# Altium footprint library MZBT_PcpLibrary.PcbLib: 144 footprints (part 3 of 9)
Each footprint in its own frame and in the unit in brackets; x right, y up, seen from the top. Pads: shape width x height; smd on the part's side, far side on the other; paste and mask are expansions set on the pad; w line width, h text height; cw(c..) or ccw(c..) is an arc to the next point about the centre after c.
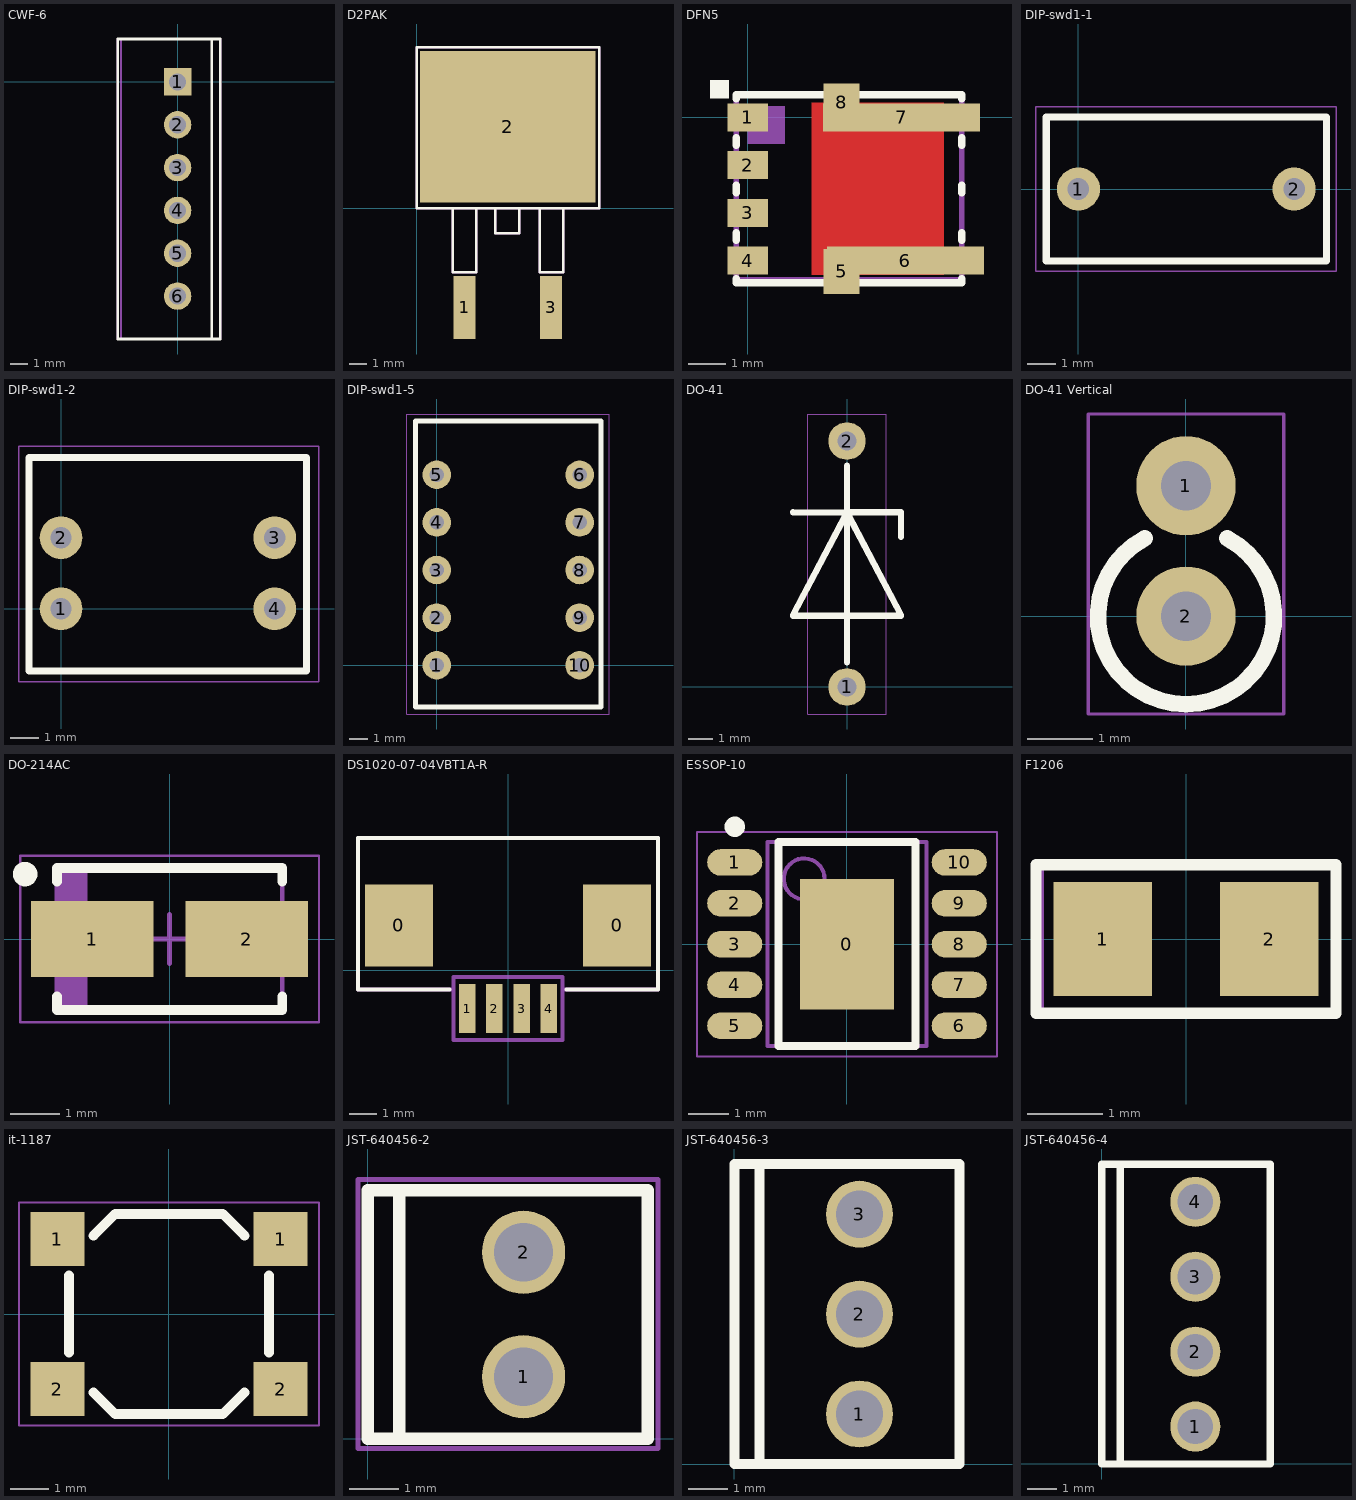
[diagram p2: the footprints below, top view; thin cyan lines are the x and y axes]

## CWF-6 [mm]
height 6
pads (6):
  rect 1.6x1.6 hole 1: 1(0,0)
  round 1.6 hole 1: 2(0,-2.5) 3(0,-5) 4(0,-7.5) 5(0,-10) 6(0,-12.5)
Top Overlay:
  lines w0.15: 2,-15 2,2.5 ; -3.5,-15 -3.5,2.5 2.5,2.5 2.5,-15 -3.5,-15
Top Court:
  lines w0.1: 2,-15 2,2.5 ; -3.3,-15 2.5,-15 2.5,2.5 -3.3,2.5 -3.3,-15
Top Comment:
  text ".Comment" at -2.789,-8.452 h1.52
Top Designator (Mech9):
  text ".Designator" at -3.217,-7.228 h1.52
Top Courtyard:
  lines w0.1: -0.4,0 0.4,0 ; 0,-0.4 0,0.4
  lines w0.102: -3.5,-15 2.5,-15 2.5,2.5 -3.5,2.5 -3.5,-15
3D body "User Library-CWF-6.STEP": height 7, standoff -3.5, extent -3.525,-15 2.225,2.5

## D2PAK [mm]
pads (3):
  rect 1.3x3.7 smd: 1(2.8,-5.81) 3(7.88,-5.81)
  rect 10.3x8.9 smd: 2(5.34,4.79)
Top Overlay:
  lines w0.15: 2.1,0 2.1,-3.755 3.5,-3.755 3.5,0 ; 4.6,0 4.6,-1.455 6,-1.455 6,0 ; 7.2,0 7.2,-3.755 8.6,-3.755 8.6,0 ; 0,0 10.7,0 10.7,0.94 10.7,9.445 0,9.445 0,9.245 0,0
Top Comment:
  text ".Comment" at 3.151,3.838 h1.52
Top Designator (Mech9):
  text ".Designator" at 2.723,5.062 h1.52
Top Component Outline:
  lines w0.15: 2.1,0 2.1,-3.755 3.5,-3.755 3.5,0 ; 4.6,0 4.6,-1.455 6,-1.455 6,0 ; 7.2,0 7.2,-3.755 8.6,-3.755 8.6,0 ; 0,0 10.7,0 10.7,0.94 10.7,9.445 0,9.445 0,9.245 0,0
3D body "D2PAK.step": height 4.98, standoff -0.03, extent 0.26,-6.019 10.42,9.245

## DFN5 [mm]
pads (8):
  rect 1.08x0.75 smd: 1(0,0) 2(0,-1.27) 3(0,-2.54) 4(0,-3.81)
  rect 0.95x1.2 smd: 5(2.5,-4.1)
  rect 4.18x0.75 smd: 6(4.2,-3.81) 7(4.1,0)
  rect 0.95x1 smd: 8(2.5,0.4)
Top Layer:
  rectangle: 1.7,-4.2 5.23,0.4
Top Overlay:
  rectangle: -1,0.5 -0.5,1
  lines w0.2: -0.3,-4.3 -0.3,-4.4 5.7,-4.4 5.7,-4.3 ; -0.3,-3.275 -0.3,-3.075 ; -0.3,-2.005 -0.3,-1.805 ; -0.3,-0.735 -0.3,-0.535 ; -0.3,0.5 -0.3,0.6 5.7,0.6 5.7,0.5 ; 5.7,-3.275 5.7,-3.075 ; 5.7,-2.005 5.7,-1.805 ; 5.7,-0.735 5.7,-0.535
Top Designator (Mech9):
  text ".Comment" at 5.05,-3.45 h0.8
  text ".Designator" at 5.15,-2.85 h0.8
Top Component Outline:
  rectangle: 0,-0.7 1,0.3
  lines w0.15: -0.3,-4.325 5.7,-4.325 5.7,0.6 -0.3,0.6 -0.3,-4.325
Top 3D Body (Mech13):
  region: -0.1,-4.5
  region: -0.1,-4.5
3D body "User Library-DFN5x6_SO8FL.STEP": height 1.13, standoff 0, extent -0.075,-4.5 6.075,0.65

## DIP-swd1-1 [mil] "SWD1-2"
pads (2):
  round 60 hole 30: 1(0,0) 2(300,0)
Top Overlay:
  lines w10: -44.88,-100 -44.88,100 344.88,100 344.88,-100 -44.88,-100
Top Comment:
  text ".Comment" at 63.43,-37.46 h60
Top Designator (Mech9):
  text ".Designator" at 46.56,10.69 h60
Top Courtyard:
  lines w1.97: -59.06,-114.17 -59.06,114.17 358.27,114.17 358.27,-114.17 -59.06,-114.17

## DIP-swd1-2 [mil] "SWD1-2"
pads (4):
  round 60 hole 30: 1(0,0) 2(0,100) 3(300,100) 4(300,0)
Top Overlay:
  lines w10: -44.88,-87.4 344.88,-87.4 344.88,212.6 -44.88,212.6 -44.88,-87.4
Top Comment:
  text ".Comment" at 59.49,13.72 h60
Top Designator (Mech9):
  text ".Designator" at 42.62,61.87 h60
Top Courtyard:
  lines w1.97: -59.06,-102.36 362.21,-102.36 362.21,228.35 -59.06,228.35 -59.06,-102.36

## DIP-swd1-5 [mil] "SWD1-5"
pads (10):
  round 60 hole 30: 1(0,0) 2(0,100) 3(0,200) 4(0,300) 5(0,400) 6(300,400) 7(300,300) 8(300,200) 9(300,100) 10(300,0)
Top Overlay:
  lines w10: -44.88,-87.4 -44.88,512.6 344.88,512.6 344.88,-87.4 -44.88,-87.4
Top Comment:
  text ".Comment" at 50.26,159.69 h60
Top Designator (Mech9):
  text ".Designator" at 50.26,205.37 h60
Top Courtyard:
  lines w1.97: -62.99,-102.36 -62.99,527.56 362.21,527.56 362.21,-102.36 -62.99,-102.36

## DO-41 [mil] "zener diode"
pads (2):
  round 60 hole 30: 1(0,0) 2(0,393.7)
Top Overlay:
  lines w10: -86.61,279.53 0,279.51 -86.61,114.17 0,114.17 86.61,114.17 0,279.53 86.61,279.53 86.61,240.16 ; 0,39.37 0,354.33
Top Comment:
  text ".Comment" at -33.9,170.3 h23.62
Top Designator (Mech9):
  text ".Designator" at -54.15,190.66 h31.5
Top Courtyard:
  lines w1.97: -62.99,-43.31 -62.99,437.01 62.99,437.01 62.99,-43.31 -62.99,-43.31
3D body "User Library-DO-41 10mm.step": height 171.73, standoff -39.37, extent -53.64,-16.93 53.64,410.63

## DO-41 Vertical [mil]
pads (2):
  round 60 hole 30: 1(0,78.74) 2(0,0)
Top Overlay:
  lines w10: -24.95,46.93 ccw(c0,0) 24.95,46.93
Top Comment:
  text ".Comment" at -33.9,16.76 h23.62
Top Designator (Mech9):
  text ".Designator" at -54.15,37.11 h31.5
Top Courtyard:
  lines w1.97: -59.06,-59.06 59.06,-59.06 59.06,122.05 -59.06,122.05 -59.06,-59.06
3D body "User Library-DO_41_Vertical_H6P7.STEP": height 280.71, standoff -59.06, extent -53.15,-53.15 53.15,95.67

## DO-214AC [mm] "Molded Diode, 2-Leads, Body 4,30x2,70mm, IPC Medium Density"
height 2.44
pads (2):
  rect 2.5x1.55 smd: 1(-1.575,0) 2(1.575,0)
Top Overlay:
  circle w0.25: c-2.95,1.325 r0.125
  lines w0.2: -2.3,-1.175 -2.3,-1.45 2.3,-1.45 2.3,-1.175 ; -2.3,1.175 -2.3,1.45 2.3,1.45 2.3,1.175
Top Comment:
  text ".Comment" at -2.189,-0.952 h1.52
Top Designator (Mech9):
  text ".Designator" at -2.617,0.272 h1.52
Top 3D Body (Mech13):
  rectangle: -2.3,-1.45 -1.681,1.45
  lines w0.1: -2.3,-1.45 2.3,-1.45 2.3,1.45 -2.3,1.45 -2.3,-1.45
Top Courtyard:
  lines w0.05: -3.05,-1.7 3.05,-1.7 3.05,1.7 -3.05,1.7 -3.05,-1.7
  lines w0.1: -0.5,0 0.5,0 ; 0,-0.5 0,0.5
3D body "User Library-DO-214AC SMA.step": height 2.4, standoff 0, extent -2.6,-1.3 2.6,1.3

## DS1020-07-04VBT1A-R [mm] "FPC разъем для шлейфа на плату, поверхностный монтаж 4pin, шаг 1.00мм"
pads (6):
  rect 2.5x3 smd: 0(-4,1.65) 0(4,1.65)
  rect 0.6x1.8 smd: 1(-1.5,-1.4) 2(-0.5,-1.4) 3(0.5,-1.4) 4(1.5,-1.4)
Top Overlay:
  lines w0.15: -2.15,-0.7 -5.5,-0.7 -5.5,4.85 5.5,4.85 5.5,-0.7 2.15,-0.7
Top Comment:
  text ".Comment" at -2.189,0.648 h1.52
Top Designator (Mech9):
  text ".Designator" at -2.617,1.872 h1.52
Top Courtyard:
  lines w0.15: -2,-0.7 -5.5,-0.7 ; -5.5,-0.7 -5.5,4.85 ; -5.5,-0.7 -5.5,4.85 ; -5.5,4.85 5.5,4.85 ; -5.5,4.85 5.5,4.85 ; 5.5,-0.7 5.5,4.85 ; 5.5,-0.7 5.5,4.85 ; 5.5,-0.7 2,-0.7 5.5,-0.7 ; -2,-2.55 2,-2.55 2,-0.25 -2,-0.25 -2,-2.55

## ESSOP-10 [mm] "SOP, 10-Leads, Body 5,00x3,90mm, Pitch 1,00mm, Thermal Pad 3,20x2,30mm, IPC Medium Density"
height 1.8
pads (11):
  rect 2.3x3.2 smd: 0(0,0)
  oval 1.35x0.65 smd: 1(-2.75,2) 2(-2.75,1) 3(-2.75,0) 4(-2.75,-1) 5(-2.75,-2) 6(2.75,-2) 7(2.75,-1) 8(2.75,0) 9(2.75,1) 10(2.75,2)
Top Overlay:
  circle w0.25: c-2.75,2.875 r0.125
  lines w0.2: -1.675,-2.5 1.675,-2.5 1.675,2.5 -1.675,2.5 -1.675,-2.5
Top Comment:
  text ".Comment" at 0.952,-2.189 h1.52
Top Designator (Mech9):
  text ".Designator" at -0.272,-2.617 h1.52
Top 3D Body (Mech13):
  circle w0.1: c-1.05,1.6 r0.5
  lines w0.1: -1.95,-2.5 1.95,-2.5 1.95,2.5 -1.95,2.5 -1.95,-2.5
Top Courtyard:
  lines w0.05: -3.675,-2.75 3.675,-2.75 3.675,2.75 -3.675,2.75 -3.675,-2.75
  lines w0.1: -0.5,0 0.5,0 ; 0,-0.5 0,0.5
3D body: height 1.8, standoff 1.8, extent -1.95,-2.5 1.95,2.5

## F1206 [mm] "SMD FUSE 1206"
height 0.5
pads (2):
  rect 1.3x1.5 smd: 1(-1.1,0) 2(1.1,0)
Top Overlay:
  lines w0.15: -1.98,-0.98 1.98,-0.98 1.98,0.98 -1.98,0.98 -1.98,-0.98
Top Component Outline:
  lines w0.1: -1.925,-0.98 -1.925,0.98 1.98,0.98 1.98,-0.98 -1.925,-0.98
3D body "Features-6.step": height 0.5, standoff -0.05, extent -1.525,-0.775 1.575,0.825

## it-1187 [mm] "switch"
pads (4):
  rect 1.4x1.4 smd: 1(-2.9,1.95) 1(2.9,1.95) 2(-2.9,-1.95) 2(2.9,-1.95)
Top Overlay:
  lines w0.254: -2.6,-1 -2.6,1 ; -1.963,-2.037 -1.4,-2.6 1.4,-2.6 1.963,-2.037 ; -1.963,2.037 -1.4,2.6 1.4,2.6 1.963,2.037 ; 2.6,-1 2.6,1
Top Comment:
  text ".Comment" at -2.189,-0.952 h1.52
Top Designator (Mech9):
  text ".Designator" at -2.617,0.272 h1.52
Top Courtyard:
  lines w0.05: -3.9,-2.9 3.9,-2.9 3.9,2.9 -3.9,2.9 -3.9,-2.9
3D body "User Library-IT-1187.step": height 1.5, standoff 0, extent -3.2,-2.6 3.2,2.6

## JST-640456-2 [mm]
pads (2):
  round 1.7 hole 1.2: 1(3.18,1.27) 2(3.18,3.81)
Top Overlay:
  lines w0.254: 0.64,0 0.64,5.08 ; 1.6,0 1.7,0 ; 0,0 0,5.08 5.72,5.08 5.72,0 0,0
Top Comment:
  text ".Comment" at 0.711,1.548 h1.52
Top Designator (Mech9):
  text ".Designator" at 0.283,2.772 h1.52
Top Courtyard:
  lines w0.102: -0.2,-0.2 5.925,-0.2 5.925,5.3 -0.2,5.3 -0.2,-0.2
3D body "User Library-640456-2.step": height 10.03, standoff -3.56, extent -0.061,0 5.781,5.08

## JST-640456-3 [mm]
pads (3):
  round 1.7 hole 1.2: 1(3.18,1.27) 2(3.18,3.81) 3(3.18,6.35)
Top Overlay:
  lines w0.254: 0.64,0 0.64,7.62 ; 1.6,0 1.7,0 ; 0,0 0,7.62 5.72,7.62 5.72,0 0,0
Top Comment:
  text ".Comment" at 0.711,2.848 h1.52
Top Designator (Mech9):
  text ".Designator" at 0.283,4.072 h1.52
Top Courtyard:
  lines w0.102: 0,0 5.725,0 5.725,7.625 0,7.625 0,0
3D body "User Library-640456-3.step": height 10.03, standoff -3.56, extent 0.005,0 5.847,7.62

## JST-640456-4 [mm]
pads (4):
  round 1.7 hole 1.2: 1(3.18,1.27) 2(3.18,3.81) 3(3.18,6.35) 4(3.18,8.89)
Top Overlay:
  lines w0.254: 0.64,0 0.64,10.16 ; 1.6,0 1.7,0 ; 0,0 0,10.16 5.72,10.16 5.72,0 0,0
Top Comment:
  text ".Comment" at 0.711,4.148 h1.52
Top Designator (Mech9):
  text ".Designator" at 0.283,5.372 h1.52
Top Courtyard:
  lines w0.102: 0,0 5.725,0 5.725,10.175 0,10.175 0,0
3D body "User Library-640456-4.step": height 10.03, standoff -3.56, extent -0.122,0 5.72,10.16